# Altium integrated library Crystals$.IntLib: 20 symbols
Pins are listed as number, name and electrical type; pins without a type are passive.

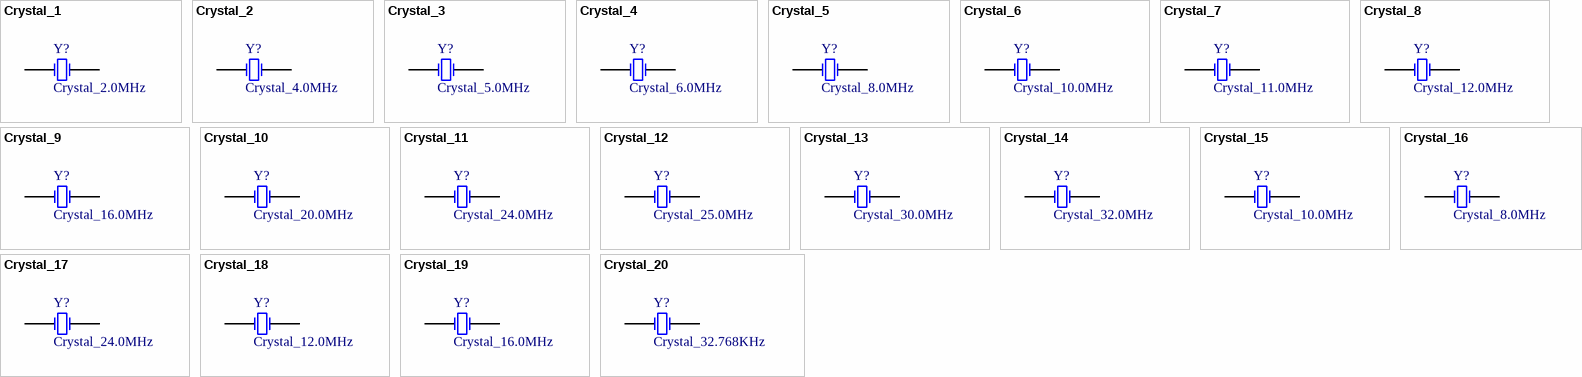
[diagram p0: symbols Crystal_1 to Crystal_20]

## Crystal_1
designator Y?, comment Crystal_2.0MHz
Frequency: 2.0 MHz; RS_number: 226-1471; QR: 1; UID: Crystal_1; Name: Crystal_2.0MHz; Name_Hyperlink: Quarz 2,0MHz; ComponentLink1URL: #NAME?; mounting: THT
footprint XTAL_THT
pins: 1 OSC1, 2 OSC2

## Crystal_2
designator Y?, comment Crystal_4.0MHz
Frequency: 4.0 MHz; RS_number: 226-1550; QR: 1; UID: Crystal_2; Name: Crystal_4.0MHz; Name_Hyperlink: Quarz 4,0MHz; ComponentLink1URL: #NAME?; mounting: THT
footprint XTAL_THT
pins: 1 OSC1, 2 OSC2

## Crystal_3
designator Y?, comment Crystal_5.0MHz
Frequency: 5.0 MHz; RS_number: 226-1617; QR: 1; UID: Crystal_3; Name: Crystal_5.0MHz; Name_Hyperlink: Quarz 5,0MHz; ComponentLink1URL: #NAME?; mounting: THT
footprint XTAL_THT
pins: 1 OSC1, 2 OSC2

## Crystal_4
designator Y?, comment Crystal_6.0MHz
Frequency: 6.0 MHz; RS_number: 226-1639; QR: 1; UID: Crystal_4; Name: Crystal_6.0MHz; Name_Hyperlink: Quarz 6,0MHz; ComponentLink1URL: #NAME?; mounting: THT
footprint XTAL_THT
pins: 1 OSC1, 2 OSC2

## Crystal_5
designator Y?, comment Crystal_8.0MHz
Frequency: 8.0 MHz; RS_number: 226-1718; QR: 1; UID: Crystal_5; Name: Crystal_8.0MHz; Name_Hyperlink: Quarz 8,0MHz; ComponentLink1URL: #NAME?; mounting: THT
footprint XTAL_THT
pins: 1 OSC1, 2 OSC2

## Crystal_6
designator Y?, comment Crystal_10.0MHz
RS_number: 478-9375; QR: 1; UID: Crystal_6; Name: Crystal_10.0MHz; Frequency: 10.0 MHz; Name_Hyperlink: Quarz 10MHz; ComponentLink1URL: #NAME?; mounting: THT
footprint XTAL_THT
pins: 1 OSC1, 2 OSC2

## Crystal_7
designator Y?, comment Crystal_11.0MHz
RS_number: 226-1752; QR: 1; UID: Crystal_7; Name: Crystal_11.0MHz; Frequency: 11.0 MHz; Name_Hyperlink: Quarz 11,0MHz; ComponentLink1URL: #NAME?; mounting: THT
footprint XTAL_THT
pins: 1 OSC1, 2 OSC2

## Crystal_8
designator Y?, comment Crystal_12.0MHz
RS_number: 226-1774; QR: 1; UID: Crystal_8; Name: Crystal_12.0MHz; Frequency: 12.0 MHz; Name_Hyperlink: Quarz 12,0MHz; ComponentLink1URL: #NAME?; mounting: THT
footprint XTAL_THT
pins: 1 OSC1, 2 OSC2

## Crystal_9
designator Y?, comment Crystal_16.0MHz
RS_number: 478-9505; QR: 1; UID: Crystal_9; Name: Crystal_16.0MHz; Frequency: 16.0 MHz; Name_Hyperlink: Quarz 16MHz; ComponentLink1URL: #NAME?; mounting: THT
footprint XTAL_THT
pins: 1 OSC1, 2 OSC2

## Crystal_10
designator Y?, comment Crystal_20.0MHz
RS_number: 226-1853; QR: 1; UID: Crystal_10; Name: Crystal_20.0MHz; Frequency: 20.0 MHz; Name_Hyperlink: Quarz 20,0MHz; ComponentLink1URL: #NAME?; mounting: THT
footprint XTAL_THT
pins: 1 OSC1, 2 OSC2

## Crystal_11
designator Y?, comment Crystal_24.0MHz
RS_number: 226-1875; QR: 1; UID: Crystal_11; Name: Crystal_24.0MHz; Frequency: 24.0 MHz; Name_Hyperlink: Quarz 24,0MHz; ComponentLink1URL: #NAME?; mounting: THT
footprint XTAL_THT
pins: 1 OSC1, 2 OSC2

## Crystal_12
designator Y?, comment Crystal_25.0MHz
RS_number: 478-9527; QR: 1; UID: Crystal_12; Name: Crystal_25.0MHz; Frequency: 25.0 MHz; Name_Hyperlink: Quarz 25MHz; ComponentLink1URL: #NAME?; mounting: THT
footprint XTAL_THT
pins: 1 OSC1, 2 OSC2

## Crystal_13
designator Y?, comment Crystal_30.0MHz
RS_number: 478-9561; QR: 1; UID: Crystal_13; Name: Crystal_30.0MHz; Frequency: 30.0 MHz; Name_Hyperlink: Quarz 30MHz; ComponentLink1URL: #NAME?; mounting: THT
footprint XTAL_THT
pins: 1 OSC1, 2 OSC2

## Crystal_14
designator Y?, comment Crystal_32.0MHz
RS_number: 226-1904; QR: 1; UID: Crystal_14; Name: Crystal_32.0MHz; Frequency: 32.0 MHz; Name_Hyperlink: Quarz 32,0MHz; ComponentLink1URL: #NAME?; mounting: THT
footprint XTAL_THT
pins: 1 OSC1, 2 OSC2

## Crystal_15
designator Y?, comment Crystal_10.0MHz
RS_number: 703-1935; QR: 1; UID: Crystal_15; Name: Crystal_10.0MHz; Frequency: 10.0 MHz; Name_Hyperlink: Crystal, ABM7, 10.000MHz, SMD; ComponentLink1URL: #NAME?; mounting: SMD
footprint XTAL_SMD
pins: 1 OSC1, 2 OSC2

## Crystal_16
designator Y?, comment Crystal_8.0MHz
Frequency: 8.0 MHz; RS_number: 703-1938; QR: 1; UID: Crystal_16; Name: Crystal_8.0MHz; Name_Hyperlink: Crystal, ABM7, 8.000MHz, SMD; ComponentLink1URL: #NAME?; mounting: SMD
footprint XTAL_SMD
pins: 1 OSC1, 2 OSC2

## Crystal_17
designator Y?, comment Crystal_24.0MHz
RS_number: 703-1975; QR: 1; UID: Crystal_17; Name: Crystal_24.0MHz; Frequency: 24.0 MHz; Name_Hyperlink: Crystal, ABM7, 24.000MHz, SMD; ComponentLink1URL: #NAME?; mounting: SMD
footprint XTAL_SMD
pins: 1 OSC1, 2 OSC2

## Crystal_18
designator Y?, comment Crystal_12.0MHz
RS_number: 703-1947; QR: 1; UID: Crystal_18; Name: Crystal_12.0MHz; Frequency: 12.0 MHz; Name_Hyperlink: Crystal, ABM7, 12.000MHz, SMD; ComponentLink1URL: #NAME?; mounting: SMD
footprint XTAL_SMD
pins: 1 OSC1, 2 OSC2

## Crystal_19
designator Y?, comment Crystal_16.0MHz
RS_number: 703-1957; QR: 1; UID: Crystal_19; Name: Crystal_16.0MHz; Frequency: 16.0 MHz; Name_Hyperlink: Crystal, ABM7, 16.000MHz, SMD; ComponentLink1URL: #NAME?; mounting: SMD
footprint XTAL_SMD
pins: 1 OSC1, 2 OSC2

## Crystal_20
designator Y?, comment Crystal_32.768KHz
RS_number: 547-6862; QR: 1; UID: Crystal_20; Name: Crystal_32.768KHz; Frequency: 32.768KHz; Name_Hyperlink: Uhrenquartz FSR; ComponentLink1URL: #NAME?; mounting: SMD
footprint XTAL_SMD
pins: 1 OSC1, 2 OSC2